# EAGLE library part DRV8313 (library gimbal)
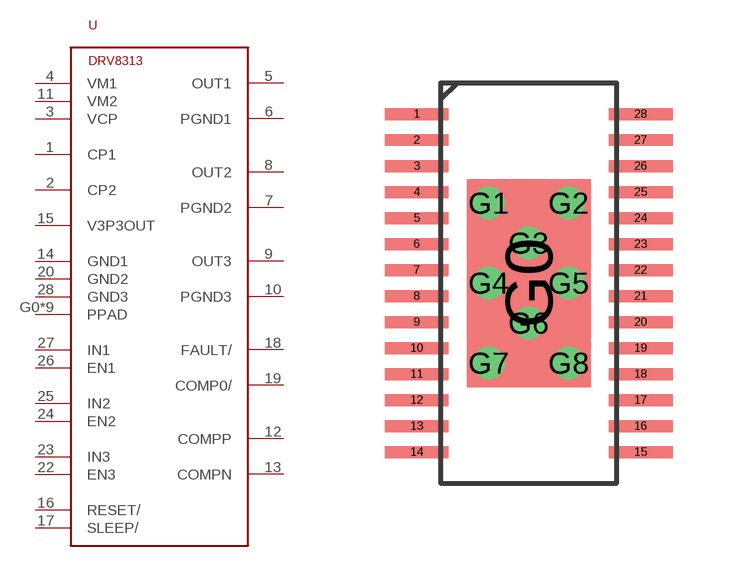
[diagram p9: symbol with the pads of HTSSOP28; footprint HTSSOP28]

Designator prefix -

## DRV8313  [HTSSOP28]
1  CP1
2  CP2
3  VCP
4  VM1
5  OUT1
6  PGND1
7  PGND2
8  OUT2
9  OUT3
10  PGND3
11  VM2
12  COMPP
13  COMPN
14  GND1
15  V3P3OUT
16  RESET/
17  SLEEP/
18  FAULT/
19  COMP0/
20  GND2
22  EN3
23  IN3
24  EN2
25  IN2
26  EN1
27  IN1
28  GND3
G0  PPAD
G1  PPAD
G2  PPAD
G3  PPAD
G4  PPAD
G5  PPAD
G6  PPAD
G7  PPAD
G8  PPAD

## Footprint HTSSOP28 (pad centres in mm)
smd 1.6 x 0.3: 1 -2.8,4.225; 2 -2.8,3.575; 3 -2.8,2.925; 4 -2.8,2.275; 5 -2.8,1.625; 6 -2.8,0.975; 7 -2.8,0.325; 8 -2.8,-0.325; 9 -2.8,-0.975; 10 -2.8,-1.625; 11 -2.8,-2.275; 12 -2.8,-2.925; 13 -2.8,-3.575; 14 -2.8,-4.225; 15 2.8,-4.225; 16 2.8,-3.575; 17 2.8,-2.925; 18 2.8,-2.275; 19 2.8,-1.625; 20 2.8,-0.975; 21 2.8,-0.325; 22 2.8,0.325; 23 2.8,0.975; 24 2.8,1.625; 25 2.8,2.275; 26 2.8,2.925; 27 2.8,3.575; 28 2.8,4.225
smd 3.1 x 5.2: G0 0,0
drill 0.305: G1 -1,2; G2 1,2; G3 0,1; G4 -1,0; G5 1,0; G6 0,-1; G7 -1,-2; G8 1,-2